# EAGLE library part 74*356 (library 74ttl-din)
8-to 1 line data SELECTOR/MULTIPLEXER/REGISTER, 3-state
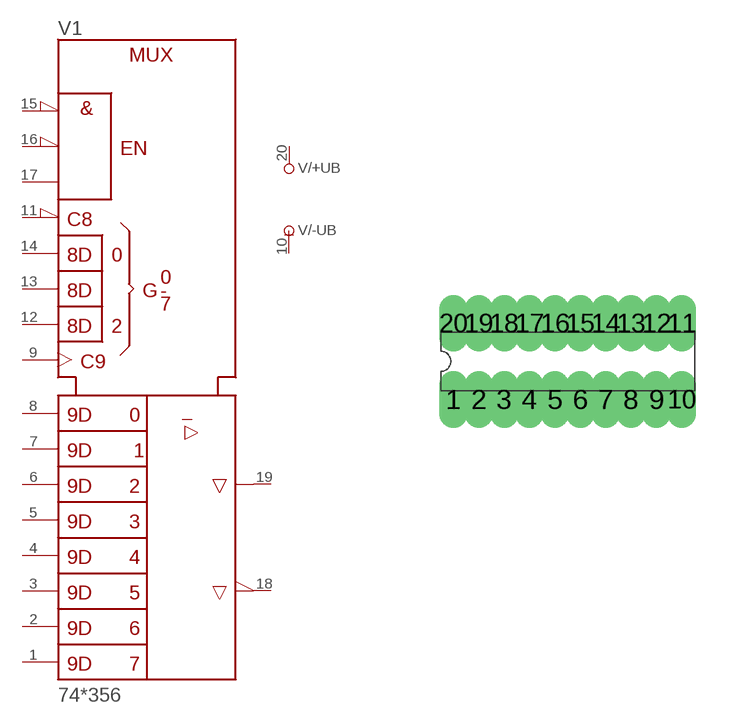
[diagram p88: symbol with the pads of DIL20; footprint DIL20]

Designator prefix V; gates /+UB=+UB /-UB=-UB 1=356

## 74356N  [DIL20]
1  1:D7  in
2  1:D6  in
3  1:D5  in
4  1:D4  in
5  1:D3  in
6  1:D2  in
7  1:D1  in
8  1:D0  in
9  1:CLK  in
10  /-UB:-UB  pwr
11  1:!SC  in
12  1:S2  in
13  1:S1  in
14  1:S0  in
15  1:!G1  in
16  1:!G2  in
17  1:G3  in
18  1:W  hiz
19  1:Y  hiz
20  /+UB:+UB  pwr

## Footprint DIL20 (pad centres in mm)
Dual In Line Package
drill 0.203 long: 1 -2.857,-0.953; 2 -2.223,-0.953; 3 -1.587,-0.953; 4 -0.953,-0.953; 5 -0.318,-0.953; 6 0.318,-0.953; 7 0.953,-0.953; 8 1.587,-0.953; 9 2.223,-0.953; 10 2.857,-0.953; 11 2.857,0.953; 12 2.223,0.953; 13 1.587,0.953; 14 0.953,0.953; 15 0.318,0.953; 16 -0.318,0.953; 17 -0.953,0.953; 18 -1.587,0.953; 19 -2.223,0.953; 20 -2.857,0.953